# Altium footprint library QFP (~0.6mm Pitch, Square) - Centre Index.PcbLib: 1 footprints
Each footprint in its own frame and in the unit in brackets; x right, y up, seen from the top. Pads: shape width x height; smd on the part's side, far side on the other; paste and mask are expansions set on the pad; w line width, h text height; cw(c..) or ccw(c..) is an arc to the next point about the centre after c.
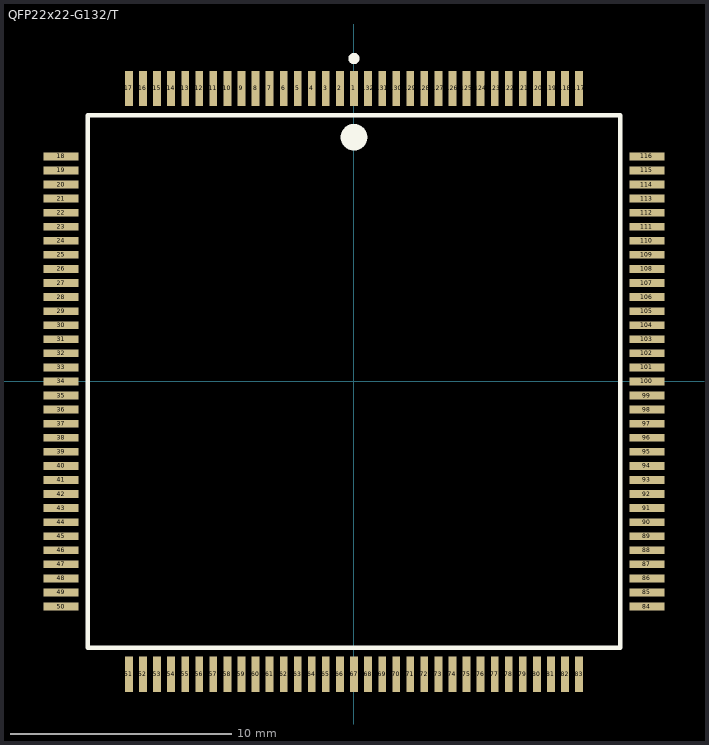
[diagram p0: the footprint, top view; thin cyan lines are the x and y axes]

## QFP22x22-G132/T [mm] "QFP; 132 Leads; Body 22 x 22 mm; Pitch 0.635 mm"
height 4.31
pads (132):
  rect 0.35x1.6 smd: 1(0,13.225) 2(-0.635,13.225) 3(-1.27,13.225) 4(-1.905,13.225) 5(-2.54,13.225) 6(-3.175,13.225) 7(-3.81,13.225) 8(-4.445,13.225) 9(-5.08,13.225) 10(-5.715,13.225) 11(-6.35,13.225) 12(-6.985,13.225) 13(-7.62,13.225) 14(-8.255,13.225) 15(-8.89,13.225) 16(-9.525,13.225) 17(-10.16,13.225) 51(-10.16,-13.225) 52(-9.525,-13.225) 53(-8.89,-13.225) 54(-8.255,-13.225) 55(-7.62,-13.225) 56(-6.985,-13.225) 57(-6.35,-13.225) 58(-5.715,-13.225) 59(-5.08,-13.225) 60(-4.445,-13.225) 61(-3.81,-13.225) 62(-3.175,-13.225) 63(-2.54,-13.225) 64(-1.905,-13.225) 65(-1.27,-13.225) 66(-0.635,-13.225) 67(0,-13.225) 68(0.635,-13.225) 69(1.27,-13.225) 70(1.905,-13.225) 71(2.54,-13.225) 72(3.175,-13.225) 73(3.81,-13.225) 74(4.445,-13.225) 75(5.08,-13.225) 76(5.715,-13.225) 77(6.35,-13.225) 78(6.985,-13.225) 79(7.62,-13.225) 80(8.255,-13.225) 81(8.89,-13.225) 82(9.525,-13.225) 83(10.16,-13.225) 117(10.16,13.225) 118(9.525,13.225) 119(8.89,13.225) 120(8.255,13.225) 121(7.62,13.225) 122(6.985,13.225) 123(6.35,13.225) 124(5.715,13.225) 125(5.08,13.225) 126(4.445,13.225) 127(3.81,13.225) 128(3.175,13.225) 129(2.54,13.225) 130(1.905,13.225) 131(1.27,13.225) 132(0.635,13.225)
  rect 1.6x0.35 smd: 18(-13.225,10.16) 19(-13.225,9.525) 20(-13.225,8.89) 21(-13.225,8.255) 22(-13.225,7.62) 23(-13.225,6.985) 24(-13.225,6.35) 25(-13.225,5.715) 26(-13.225,5.08) 27(-13.225,4.445) 28(-13.225,3.81) 29(-13.225,3.175) 30(-13.225,2.54) 31(-13.225,1.905) 32(-13.225,1.27) 33(-13.225,0.635) 34(-13.225,0) 35(-13.225,-0.635) 36(-13.225,-1.27) 37(-13.225,-1.905) 38(-13.225,-2.54) 39(-13.225,-3.175) 40(-13.225,-3.81) 41(-13.225,-4.445) 42(-13.225,-5.08) 43(-13.225,-5.715) 44(-13.225,-6.35) 45(-13.225,-6.985) 46(-13.225,-7.62) 47(-13.225,-8.255) 48(-13.225,-8.89) 49(-13.225,-9.525) 50(-13.225,-10.16) 84(13.225,-10.16) 85(13.225,-9.525) 86(13.225,-8.89) 87(13.225,-8.255) 88(13.225,-7.62) 89(13.225,-6.985) 90(13.225,-6.35) 91(13.225,-5.715) 92(13.225,-5.08) 93(13.225,-4.445) 94(13.225,-3.81) 95(13.225,-3.175) 96(13.225,-2.54) 97(13.225,-1.905) 98(13.225,-1.27) 99(13.225,-0.635) 100(13.225,0) 101(13.225,0.635) 102(13.225,1.27) 103(13.225,1.905) 104(13.225,2.54) 105(13.225,3.175) 106(13.225,3.81) 107(13.225,4.445) 108(13.225,5.08) 109(13.225,5.715) 110(13.225,6.35) 111(13.225,6.985) 112(13.225,7.62) 113(13.225,8.255) 114(13.225,8.89) 115(13.225,9.525) 116(13.225,10.16)
Top Overlay:
  circle w0.25: c0,14.575 r0.125
  circle w0.6: c0,11.025 r0.3
  lines w0.2: -12.025,-12.025 12.025,-12.025 12.025,12.025 -12.025,12.025 -12.025,-12.025